# EAGLE library part WE-POE_EP13 (library wurth_elektronik_passive_rev16d)
Power over Ethernet Transformer Characteristics Flyback transformer designed for PoE PDs Input voltage: 36 V to 57 V Switching frequencies: 200–500 kHz Operating temperature: –40 ºC to +125 ºC Insulation test voltage: 1.5 kVAC/1 min Different output powers and voltages available Applications Suitable for PoE IC’s like LTC4267, TPS 23750, TPS 23770, LM5070, LM 5071, LM 5072 <http://katalog.we-online.de/media/images/eisos/UtPOE_MID_pf2.jpg> Details see: http://katalog.we-online.de/en/pbs/WE-PoE? Updated by Dan Xu 2014-07-08 2014 (C) Wurth Elektronik
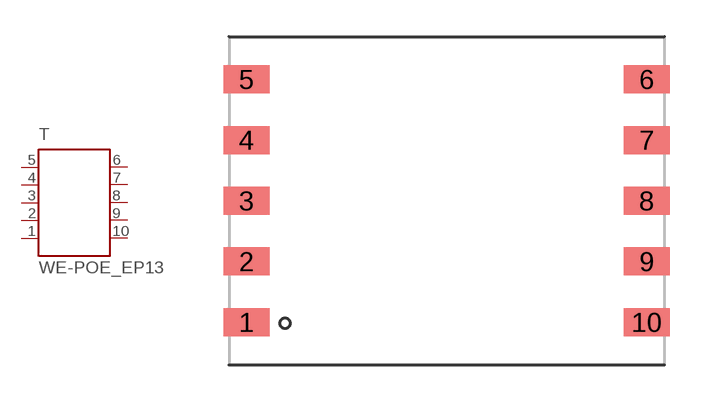
[diagram p25: symbol with the pads of WE_EP13_SMD_10PIN; footprint WE_EP13_SMD_10PIN]

Designator prefix T

## WE-POE_EP13  [WE_EP13_SMD_10PIN]
1  5  pas
2  4  pas
3  3  pas
4  2  pas
5  1  pas
6  10  pas
7  9  pas
8  8  pas
9  7  pas
10  6  pas

## Footprint WE_EP13_SMD_10PIN (pad centres in mm)
Transformer, EP13 SMD 10 Pin
smd 1.88 x 1.143: 1 -8.18,-4.96; 2 -8.18,-2.48; 3 -8.18,0; 4 -8.18,2.48; 5 -8.18,4.96; 6 8.18,4.96; 7 8.18,2.48; 8 8.18,0; 9 8.18,-2.48; 10 8.18,-4.96